# Altium schematic symbol library CRG0805F3K9.SchLib: 1 symbol
Pins are listed as number, name and electrical type; pins without a type are passive.

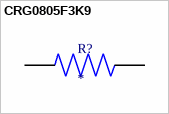
[diagram p0: symbol CRG0805F3K9]

## CRG0805F3K9
designator R?
CRG0805 1% 3K9; MP: CRG0805F3K9; Package: None; Price: None; Value: *; Availability: Unavailable
footprint RESC2012X65N
pins: 1, 2